# Altium footprint library Resistors.PcbLib: 2 footprints
Each footprint in its own frame and in the unit in brackets; x right, y up, seen from the top. Pads: shape width x height; smd on the part's side, far side on the other; paste and mask are expansions set on the pad; w line width, h text height; cw(c..) or ccw(c..) is an arc to the next point about the centre after c.
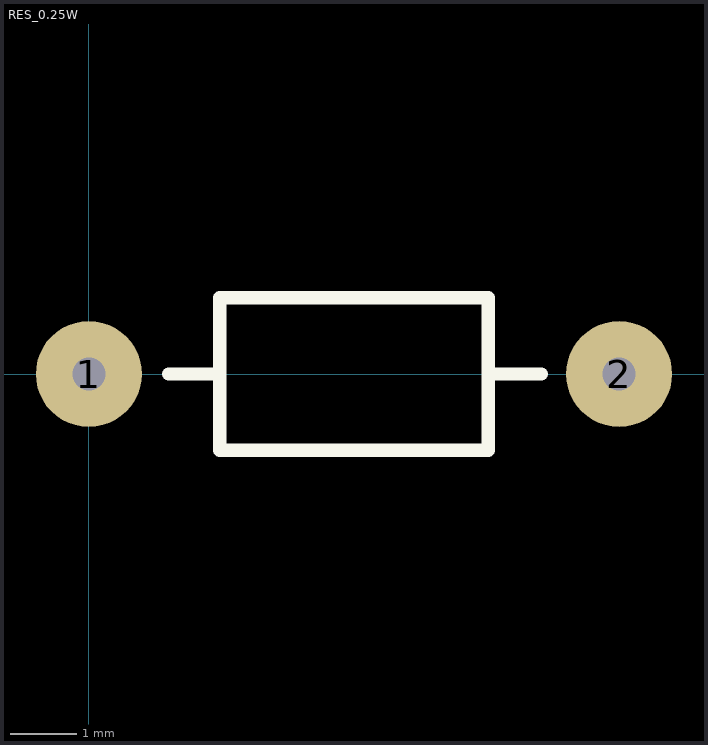
[diagram p0: the footprints below, top view; thin cyan lines are the x and y axes]

## PCBComponent_1 [mm]

## RES_0.25W [mm]
pads (2):
  round 1.6 hole 0.5: 1(0,0) 2(8,0)
Top Overlay:
  lines w0.2: 1.2,0 1.975,0 ; 6.025,0 6.825,0 ; 1.975,0 1.975,1.15 6.025,1.15 6.025,-1.15 1.975,-1.15 1.975,0